# EAGLE library part MCP1623/4 (library jason_eagle6)
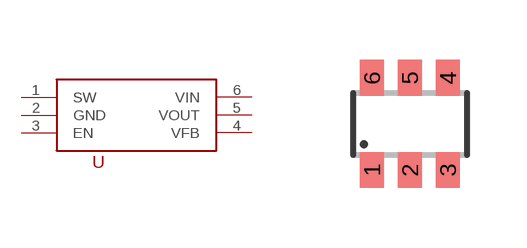
[diagram p43: symbol with the pads of SOT23-6; footprint SOT23-6]

Designator prefix -

## MCP1623/4  [SOT23-6]
1  SW
2  GND
3  EN
4  VFB
5  VOUT
6  VIN

## Footprint SOT23-6 (pad centres in mm)
Small Outline Transistor 6 lead
smd 0.6 x 0.9: 1 -0.95,-1.15; 2 0,-1.15; 3 0.95,-1.15; 4 0.95,1.15; 5 0,1.15; 6 -0.95,1.15